# Altium schematic symbol library Relays.SchLib: 1 symbol
Pins are listed as number, name and electrical type; pins without a type are passive.

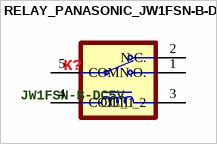
[diagram p0: symbol RELAY_PANASONIC_JW1FSN-B-DC5V]

## RELAY_PANASONIC_JW1FSN-B-DC5V
designator K?, comment JW1FSN-B-DC5V
Relay General Purpose SPDT (1 Form C) 5VDC Coil Through Hole; Manufacturer: Panasonic; Operate Time: 15ms; Coil Resistance: 47R; Max Current Rating: 10A; Power Consumption: 530mW; Coil Current: 106mA; Release Time: 5ms; Coil Type: Non-Latching; Coil Voltage (DC): 5V; Voltage Rating (AC): 250V; Voltage Rating (DC): 30V; Switching Capacity: 300W; Must Operate Voltage: 3.5V; Must Release Voltage: 0.5V; Manufacturer Part Number: JW1FSN-B-DC5V; Category: Power Relays, over 2 Amps; Mounting Technology: Through Hole; Min Operating Temperature: -40°C; Max Operating Temperature: 85°C; Throw Configuration: SPDT; Contact Current Rating: 10A; Termination: PC Pin; Coil Power: 530mW; Relay Type: General Purpose; Switching Current: 10A; RoHS Compliant: Yes; ComponentLink1URL: https://api.pim.na.industrial.panasonic.com/file_stream/main/fileversion/286; ComponentLink1Description: Datasheet; Supplier 1: Digi-Key; Supplier Part Number 1: 255-1728-ND; Supplier 2: Mouser; Supplier Part Number 2: 769-JW1FSN-B-DC5V
footprint PANASONIC_JW1FSN-DC5V (General Purpose Relay SPDT (1 Form C) 5VDC Coil Through Hole)
simulation model SPDT_Relay (Model Description)
pins: 1 N.O., 2 N.C., 3 COIL_2, 4 COIL_1, 5 COM